# Altium footprint library IND0603.PcbLib: 4 footprints
Each footprint in its own frame and in the unit in brackets; x right, y up, seen from the top. Pads: shape width x height; smd on the part's side, far side on the other; paste and mask are expansions set on the pad; w line width, h text height; cw(c..) or ccw(c..) is an arc to the next point about the centre after c.
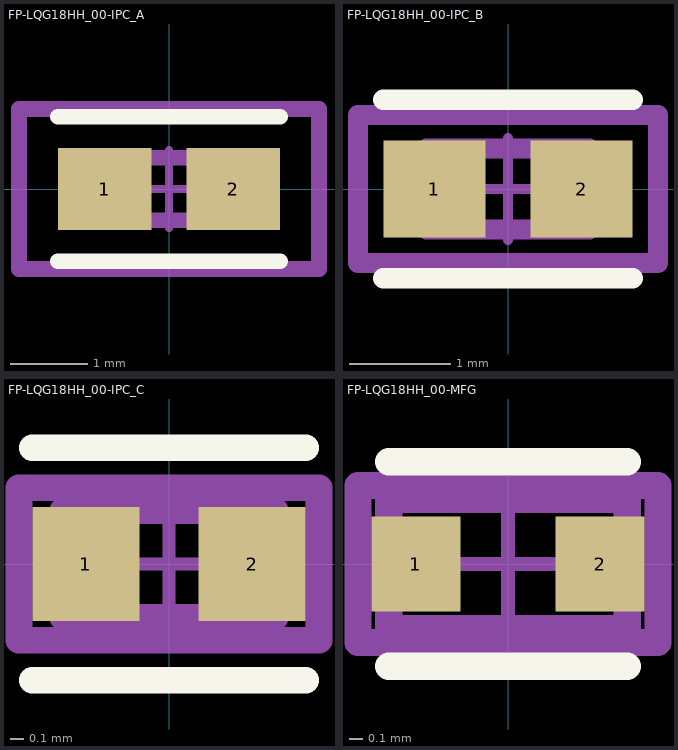
[diagram p0: the footprints below, top view; thin cyan lines are the x and y axes]

## FP-LQG18HH_00-IPC_A [mm]
pads (2):
  rect 1.206x1.058 smd paste+0 mask+0: 1(-0.826,0) 2(0.826,0)
Top Overlay:
  lines w0.2: -1.429,-0.929 1.429,-0.929 ; -1.429,0.929 1.429,0.929
Mechanical 5:
  lines w0.2: -1.929,-1.029 1.929,-1.029 1.929,1.029 -1.929,1.029 -1.929,-1.029
  text ".Designator" at 0,0.188 h1
Mechanical 13:
  lines w0.2: -0.8,-0.4 0.8,-0.4 0.8,0.4 -0.8,0.4 -0.8,-0.4
Mechanical 15:
  lines w0.2: -1.929,-1.029 1.929,-1.029 1.929,1.029 -1.929,1.029 -1.929,-1.029
Mechanical 16:
  lines w0.1: -0.5,0 0.5,0 ; 0,-0.5 0,0.5
3D body "Ind_Murata_LQG18HH10NJ00J_eec.STEP": height 0.25, standoff 0, extent -1.929,-1.029 1.929,1.029

## FP-LQG18HH_00-IPC_B [mm]
pads (2):
  rect 1.006x0.958 smd paste+0 mask+0: 1(-0.726,0) 2(0.726,0)
Top Overlay:
  lines w0.2: -1.229,-0.879 1.229,-0.879 ; -1.229,0.879 1.229,0.879
Mechanical 5:
  lines w0.2: -1.479,-0.729 1.479,-0.729 1.479,0.729 -1.479,0.729 -1.479,-0.729
  text ".Designator" at 0,0.188 h1
Mechanical 13:
  lines w0.2: -0.8,-0.4 0.8,-0.4 0.8,0.4 -0.8,0.4 -0.8,-0.4
Mechanical 15:
  lines w0.2: -1.479,-0.729 1.479,-0.729 1.479,0.729 -1.479,0.729 -1.479,-0.729
Mechanical 16:
  lines w0.1: -0.5,0 0.5,0 ; 0,-0.5 0,0.5
3D body "Ind_Murata_LQG18HH10NJ00J_eec.STEP": height 0.25, standoff 0, extent -1.479,-0.729 1.479,0.729

## FP-LQG18HH_00-IPC_C [mm]
pads (2):
  rect 0.806x0.858 smd paste+0 mask+0: 1(-0.626,0) 2(0.626,0)
Top Overlay:
  lines w0.2: -1.029,-0.875 1.029,-0.875 ; -1.029,0.875 1.029,0.875
Mechanical 5:
  lines w0.2: -1.129,-0.575 1.129,-0.575 1.129,0.575 -1.129,0.575 -1.129,-0.575
  text ".Designator" at 0,0.188 h1
Mechanical 13:
  lines w0.2: -0.8,-0.4 0.8,-0.4 0.8,0.4 -0.8,0.4 -0.8,-0.4
Mechanical 15:
  lines w0.2: -1.129,-0.575 1.129,-0.575 1.129,0.575 -1.129,0.575 -1.129,-0.575
Mechanical 16:
  lines w0.1: -0.5,0 0.5,0 ; 0,-0.5 0,0.5
3D body "Ind_Murata_LQG18HH10NJ00J_eec.STEP": height 0.25, standoff 0, extent -1.129,-0.575 1.129,0.575

## FP-LQG18HH_00-MFG [mm]
pads (2):
  rect 0.65x0.7 smd paste+0 mask+0: 1(-0.675,0) 2(0.675,0)
Top Overlay:
  lines w0.2: -0.875,-0.75 0.875,-0.75 ; -0.875,0.75 0.875,0.75
Mechanical 5:
  lines w0.2: -1.1,-0.575 1.1,-0.575 1.1,0.575 -1.1,0.575 -1.1,-0.575
  text ".Designator" at 0,0.188 h1
Mechanical 13:
  lines w0.2: -0.875,-0.475 0.875,-0.475 0.875,0.475 -0.875,0.475 -0.875,-0.475
Mechanical 15:
  lines w0.2: -1.1,-0.575 1.1,-0.575 1.1,0.575 -1.1,0.575 -1.1,-0.575
Mechanical 16:
  lines w0.1: -0.5,0 0.5,0 ; 0,-0.5 0,0.5
3D body "Ind_Murata_LQG18HH10NJ00J_eec.STEP": height 0.25, standoff 0, extent -1.1,-0.575 1.1,0.575